# Altium schematic symbol library SCH - LOGO - Yamaha.Schlib: 1 symbol
Pins are listed as number, name and electrical type; pins without a type are passive.

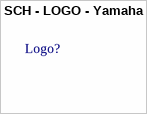
[diagram p0: symbol SCH - LOGO - Yamaha]

## SCH - LOGO - Yamaha
designator Logo?
footprint Yamaha_Logo